# Altium footprint library rpi.PcbLib: 2 footprints
Each footprint in its own frame and in the unit in brackets; x right, y up, seen from the top. Pads: shape width x height; smd on the part's side, far side on the other; paste and mask are expansions set on the pad; w line width, h text height; cw(c..) or ccw(c..) is an arc to the next point about the centre after c.
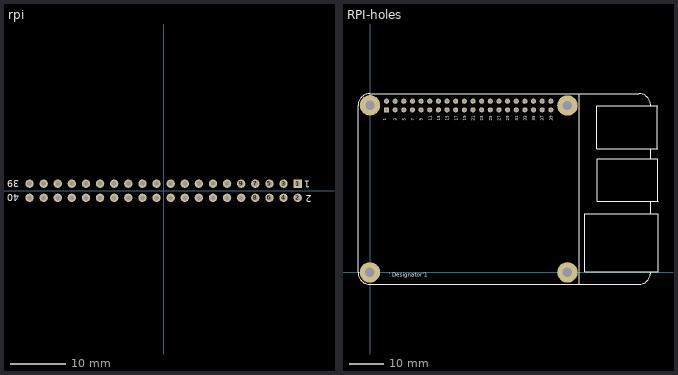
[diagram p0: the footprints below, top view; thin cyan lines are the x and y axes]

## rpi [mm]
pads (40):
  rect 1.5x1.5 hole 0.9: 1(24.13,1.27)
  round 1.5 hole 0.9: 2(24.13,-1.27) 3(21.59,1.27) 4(21.59,-1.27) 5(19.05,1.27) 6(19.05,-1.27) 7(16.51,1.27) 8(16.51,-1.27) 9(13.97,1.27) 10(13.97,-1.27) 11(11.43,1.27) 12(11.43,-1.27) 13(8.89,1.27) 14(8.89,-1.27) 15(6.35,1.27) 16(6.35,-1.27) 17(3.81,1.27) 18(3.81,-1.27) 19(1.27,1.27) 20(1.27,-1.27) 21(-1.27,1.27) 22(-1.27,-1.27) 23(-3.81,1.27) 24(-3.81,-1.27) 25(-6.35,1.27) 26(-6.35,-1.27) 27(-8.89,1.27) 28(-8.89,-1.27) 29(-11.43,1.27) 30(-11.43,-1.27) 31(-13.97,1.27) 32(-13.97,-1.27) 33(-16.51,1.27) 34(-16.51,-1.27) 35(-19.05,1.27) 36(-19.05,-1.27) 37(-21.59,1.27) 38(-21.59,-1.27) 39(-24.13,1.27) 40(-24.13,-1.27)
Top Overlay:
  text "2" at 26.7,-0.775 h1.27
  text "1" at 26.4,1.775 h1.27
  text "39" at -26.025,1.9 h1.27
  text "40" at -25.95,-0.65 h1.27
Bottom Overlay:
  lines w0.2: -25.527,-2.54 25.4,-2.54 25.4,2.54 -25.527,2.54 -25.527,-2.54
3D body "female_header_a-bl254-dg-z32d.stp": height 8.5, standoff -3.2, extent -25.525,-2.625 15.365,2.375
3D body "female_header_a-bl254-dg-z32d.stp": height 8.5, standoff -3.2, extent -15.365,-2.627 25.525,2.373

## RPI-holes [mm]
pads (44):
  rect 1.5x1.5 hole 0.9: 1(4.845,47.755)
  round 1.5 hole 0.9: 2(4.845,50.295) 3(7.385,47.755) 4(7.385,50.295) 5(9.925,47.755) 6(9.925,50.295) 7(12.465,47.755) 8(12.465,50.295) 9(15.005,47.755) 10(15.005,50.295) 11(17.545,47.755) 12(17.545,50.295) 13(20.085,47.755) 14(20.085,50.295) 15(22.625,47.755) 16(22.625,50.295) 17(25.165,47.755) 18(25.165,50.295) 19(27.705,47.755) 20(27.705,50.295) 21(30.245,47.755) 22(30.245,50.295) 23(32.785,47.755) 24(32.785,50.295) 25(35.325,47.755) 26(35.325,50.295) 27(37.865,47.755) 28(37.865,50.295) 29(40.405,47.755) 30(40.405,50.295) 31(42.945,47.755) 32(42.945,50.295) 33(45.485,47.755) 34(45.485,50.295) 35(48.025,47.755) 36(48.025,50.295) 37(50.565,47.755) 38(50.565,50.295) 39(53.105,47.755) 40(53.105,50.295)
  round 6 hole 2.75: ""(-0.025,0.025) ""(0,49.075) ""(57.975,0.025) ""(57.975,49.025)
Top Overlay:
  lines w0.2: 66.6,48.9 84.375,48.9 84.425,48.85 84.425,36.4 84.475,36.35 66.7,36.35 66.65,36.3 66.65,48.75 ; 66.7,33.45 84.475,33.45 ; 66.75,33.3 66.75,20.85 66.8,20.9 84.575,20.9 84.525,20.95 84.525,33.4 ; 82.425,17.15 82.425,20.9 ; 82.425,33.45 82.425,36.35 ; 84.525,16.95 84.575,17 ; 84.525,17.175 63.025,17.175 63.025,0.175 84.55,0.175 84.575,0.2 84.575,17.225
  lines w0.254: 61.45,-3.5 61.468,52.45 ; 78.925,-3.475 ccw(c78.921,0.021) 82.417,0.025 ; 78.925,52.525 cw(c78.921,49.029) 82.417,49.025 ; 78.975,-3.475 -0.025,-3.475 cw(c-0.025,0.025) -3.525,0.025 -3.525,49.025 cw(c-0.025,49.025) -0.025,52.525 78.975,52.525
  text "1" at 4.74,44.545 h0.89
  text "3" at 7.915,44.545 h0.89
  text "5" at 10.455,44.545 h0.89
  text "7" at 12.995,44.545 h0.89
  text "9" at 15.535,44.545 h0.89
  text "11" at 18.075,44.545 h0.89
  text "13" at 20.615,44.545 h0.89
  text "15" at 23.155,44.545 h0.89
  text "17" at 25.695,44.545 h0.89
  text "19" at 28.235,44.545 h0.89
  text "21" at 30.775,44.545 h0.89
  text "23" at 33.315,44.545 h0.89
  text "25" at 35.855,44.545 h0.89
  text "27" at 38.395,44.545 h0.89
  text "29" at 40.935,44.545 h0.89
  text "31" at 43.475,44.545 h0.89
  text "33" at 46.015,44.545 h0.89
  text "35" at 48.555,44.545 h0.89
  text "37" at 51.095,44.545 h0.89
  text "39" at 53.635,44.545 h0.89
  text "'.Designator'1" at 5.45,-1.275 h1.2
Bottom Overlay:
  circle w0.5: c4.225,45.775 r0.25
  lines w0.2: 3.575,46.485 3.575,51.565 54.502,51.565 54.502,46.485 3.575,46.485
3D body: height 2.9, standoff -2.9, extent 21.475,58.35 21.475,58.35
3D body: height 2.9, standoff -2.9, extent -3.5,52.5 -3.5,52.5
3D body "Rpi3Bplus.STEP": height 17.5, standoff -0.03, extent -3.525,-5.895 83.504,52.575